# Altium schematic symbol library TMCS1101A3BQDRQ1.SchLib: 2 symbols
Pins are listed as number, name and electrical type; pins without a type are passive.

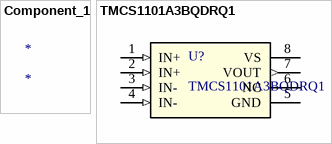
[diagram p0: symbols Component_1 to TMCS1101A3BQDRQ1]

## Component_1
designator *

## TMCS1101A3BQDRQ1
designator U?
AEC-Q100, Â±600-V,Â precision, isolated current sensor with internal reference 8-SOIC -40 to 125; Manufacturer_Name: Texas Instruments; Copyright: Copyright (C) 2025 Ultra Librarian. All rights reserved.; Manufacturer_Part_Number: TMCS1101A3BQDRQ1; Datasheet: https://www.ti.com/lit/gpn/tmcs1101-q1; RefDes: RefDes; Type: Type
footprint SOIC8_D_TEX
pins: 1 IN+ (in), 2 IN+ (in), 3 IN- (in), 4 IN- (in), 5 GND (power), 6 NC, 7 VOUT (out), 8 VS (power)